# Altium schematic symbol library kmilo17pet-dsPIC33F.SchLib: 775 symbols (part 4 of 44)
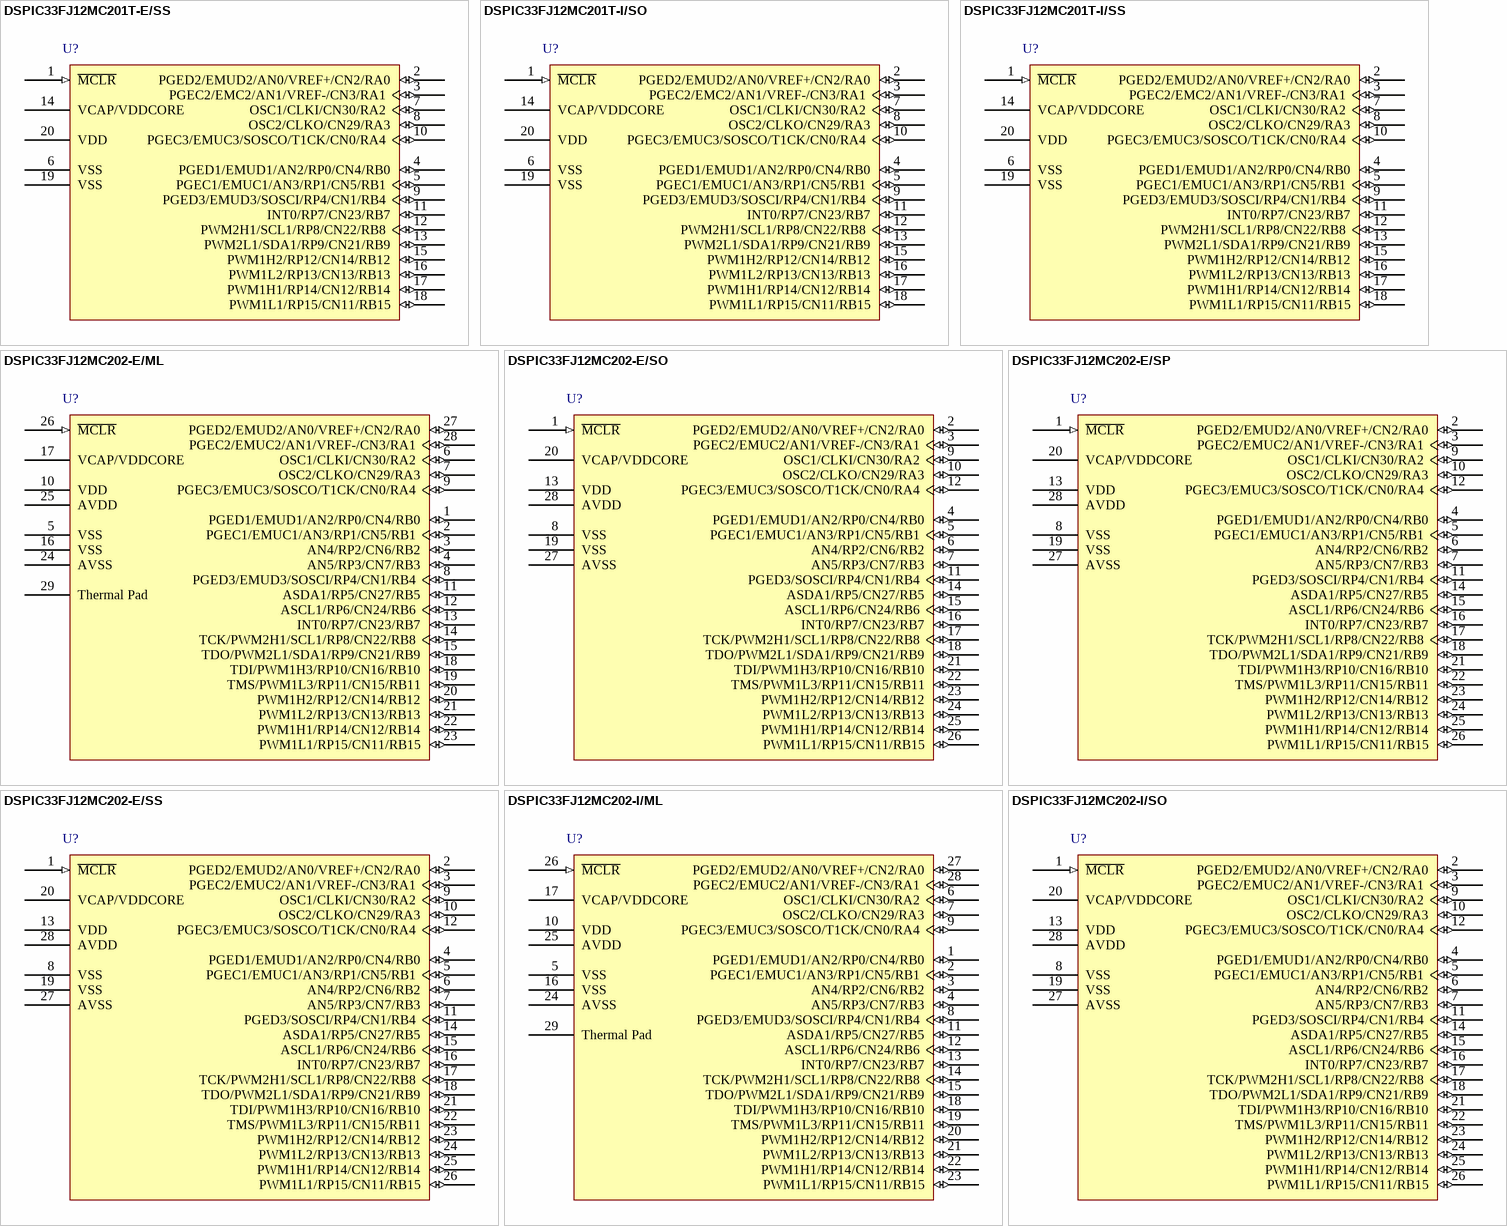
[diagram p161: symbols DSPIC33FJ12MC201T-E/SS to DSPIC33FJ12MC202-I/SO]

## DSPIC33FJ12MC201T-I/SO
designator U?
High-Performance 16-bit Digital Signal Controller, 12 KB Flash, 1 KB RAM, 20-Pin SOIC, Industrial Temperature, Tape and Reel; Manufacturer: Microchip; PartNumber: DSPIC33FJ12MC201T-I/SO; DatasheetVersion: revD, Jun-2009; PackageVersion: revBB, Aug-2009; PackageReference: SOIC-SO20; PackageDescription: 20-Lead Plastic Small Outline (SO) - Wide 7.50mm Body [SOIC]; Supplier 1: Digi-Key; Supplier Part Number 1: DSPIC33FJ12MC201T-I/SOTR-ND; Supplier 2: Mouser; Supplier Part Number 2: 579-DSPIC33MC201TISO; Mounting Technology: Surface Mount; Code_JEDEC: MS-013-AC; Code_IPC: SOIC127P1030-20; ComponentLink1Description: Manufacturer URL; ComponentLink1URL: http://www.microchip.com/; ComponentLink2Description: Datasheet; ComponentLink2URL: http://ww1.microchip.com/downloads/en/DeviceDoc/70265D.pdf; ComponentLink3Description: Package Specification; ComponentLink3URL: http://www.microchip.com/stellent/groups/techpub_sg/documents/packagingspec/en012702.pdf
footprint SOIC-SO20_N (SOIC, 20-Leads, Body 12.8x7.5mm, Pitch 1.27mm, IPC Medium Density)
footprint SOIC-SO20_L (SOIC, 20-Leads, Body 12.8x7.5mm, Pitch 1.27mm, IPC High Density)
footprint SOIC-SO20_M (SOIC, 20-Leads, Body 12.8x7.5mm, Pitch 1.27mm, IPC Low Density)
pins: 1 ~{MCLR} (in), 2 PGED2/EMUD2/AN0/VREF+/CN2/RA0 (io), 3 PGEC2/EMC2/AN1/VREF-/CN3/RA1 (io), 4 PGED1/EMUD1/AN2/RP0/CN4/RB0 (io), 5 PGEC1/EMUC1/AN3/RP1/CN5/RB1 (io), 6 VSS (power), 7 OSC1/CLKI/CN30/RA2 (io), 8 OSC2/CLKO/CN29/RA3 (io), 9 PGED3/EMUD3/SOSCI/RP4/CN1/RB4 (io), 10 PGEC3/EMUC3/SOSCO/T1CK/CN0/RA4 (io), 11 INT0/RP7/CN23/RB7 (io), 12 PWM2H1/SCL1/RP8/CN22/RB8 (io), 13 PWM2L1/SDA1/RP9/CN21/RB9 (io), 14 VCAP/VDDCORE (power), 15 PWM1H2/RP12/CN14/RB12 (io), 16 PWM1L2/RP13/CN13/RB13 (io), 17 PWM1H1/RP14/CN12/RB14 (io), 18 PWM1L1/RP15/CN11/RB15 (io), 19 VSS (power), 20 VDD (power)

## DSPIC33FJ12MC201T-I/SS
designator U?
High-Performance 16-bit Digital Signal Controller, 12 KB Flash, 1 KB RAM, 20-Pin SSOP, Industrial Temperature, Tape and Reel; Manufacturer: Microchip; PartNumber: DSPIC33FJ12MC201T-I/SS; DatasheetVersion: revD, Jun-2009; PackageVersion: revBB, Aug-2009; PackageReference: SSOP-SS20; PackageDescription: 20-Lead Plastic Shrink Small Outline (SS) - 5.3mm Body [SSOP]; Supplier 1: Digi-Key; Supplier Part Number 1: DSPIC33FJ12MC201T-I/SSTR-ND; Supplier 2: Mouser; Supplier Part Number 2: 579-DSPIC33MC201TISS; Mounting Technology: Surface Mount; Code_JEDEC: MO-150; ComponentLink1Description: Manufacturer URL; ComponentLink1URL: http://www.microchip.com/; ComponentLink2Description: Datasheet; ComponentLink2URL: http://ww1.microchip.com/downloads/en/DeviceDoc/70265D.pdf; ComponentLink3Description: Package Specification; ComponentLink3URL: http://www.microchip.com/stellent/groups/techpub_sg/documents/packagingspec/en012702.pdf
footprint SSOP-SS20_N (SOP, 20-Leads, Body 7.2x5.2mm, Pitch 0.65mm, IPC Medium Density)
footprint SSOP-SS20_L (SOP, 20-Leads, Body 7.2x5.2mm, Pitch 0.65mm, IPC High Density)
footprint SSOP-SS20_M (SOP, 20-Leads, Body 7.2x5.2mm, Pitch 0.65mm, IPC Low Density)
pins: 1 ~{MCLR} (in), 2 PGED2/EMUD2/AN0/VREF+/CN2/RA0 (io), 3 PGEC2/EMC2/AN1/VREF-/CN3/RA1 (io), 4 PGED1/EMUD1/AN2/RP0/CN4/RB0 (io), 5 PGEC1/EMUC1/AN3/RP1/CN5/RB1 (io), 6 VSS (power), 7 OSC1/CLKI/CN30/RA2 (io), 8 OSC2/CLKO/CN29/RA3 (io), 9 PGED3/EMUD3/SOSCI/RP4/CN1/RB4 (io), 10 PGEC3/EMUC3/SOSCO/T1CK/CN0/RA4 (io), 11 INT0/RP7/CN23/RB7 (io), 12 PWM2H1/SCL1/RP8/CN22/RB8 (io), 13 PWM2L1/SDA1/RP9/CN21/RB9 (io), 14 VCAP/VDDCORE (power), 15 PWM1H2/RP12/CN14/RB12 (io), 16 PWM1L2/RP13/CN13/RB13 (io), 17 PWM1H1/RP14/CN12/RB14 (io), 18 PWM1L1/RP15/CN11/RB15 (io), 19 VSS (power), 20 VDD (power)

## DSPIC33FJ12MC202-E/ML
designator U?
High-Performance 16-bit Digital Signal Controller, 12 KB Flash, 1 KB RAM, 28-Pin QFN, Extended High Temperature; Manufacturer: Microchip; PartNumber: DSPIC33FJ12MC202-E/ML; DatasheetVersion: revD, Jun-2009; PackageVersion: revBB, Aug-2009; PackageReference: QFN-ML28; PackageDescription: 28-Lead Plastic Quad Flat, No Lead Package (ML) - 6x6 mm Body [QFN] with 0.55 mm Contact Length; Supplier 1: Digi-Key; Supplier Part Number 1: DSPIC33FJ12MC202-E/ML-ND; Supplier 2: Mouser; Supplier Part Number 2: 579-DSPIC33FJ12MCEML; Mounting Technology: Surface Mount; Code_JEDEC: MO-220; ComponentLink1Description: Manufacturer URL; ComponentLink1URL: http://www.microchip.com/; ComponentLink2Description: Datasheet; ComponentLink2URL: http://ww1.microchip.com/downloads/en/DeviceDoc/70265D.pdf; ComponentLink3Description: Package Specification; ComponentLink3URL: http://www.microchip.com/stellent/groups/techpub_sg/documents/packagingspec/en012702.pdf
footprint QFN-ML28_N (QFN, 28-Leads, Body 6x6mm, Pitch 0.65mm, Thermal Pad 4.2x4.2mm, IPC Medium Density)
footprint QFN-ML28_L (QFN, 28-Leads, Body 6x6mm, Pitch 0.65mm, Thermal Pad 4.2x4.2mm, IPC High Density)
footprint QFN-ML28_M (QFN, 28-Leads, Body 6x6mm, Pitch 0.65mm, Thermal Pad 4.2x4.2mm, IPC Low Density)
pins: 1 PGED1/EMUD1/AN2/RP0/CN4/RB0 (io), 2 PGEC1/EMUC1/AN3/RP1/CN5/RB1 (io), 3 AN4/RP2/CN6/RB2 (io), 4 AN5/RP3/CN7/RB3 (io), 5 VSS (power), 6 OSC1/CLKI/CN30/RA2 (io), 7 OSC2/CLKO/CN29/RA3 (io), 8 PGED3/EMUD3/SOSCI/RP4/CN1/RB4 (io), 9 PGEC3/EMUC3/SOSCO/T1CK/CN0/RA4 (io), 10 VDD (power), 11 ASDA1/RP5/CN27/RB5 (io), 12 ASCL1/RP6/CN24/RB6 (io), 13 INT0/RP7/CN23/RB7 (io), 14 TCK/PWM2H1/SCL1/RP8/CN22/RB8 (io), 15 TDO/PWM2L1/SDA1/RP9/CN21/RB9 (io), 16 VSS (power), 17 VCAP/VDDCORE (power), 18 TDI/PWM1H3/RP10/CN16/RB10 (io), 19 TMS/PWM1L3/RP11/CN15/RB11 (io), 20 PWM1H2/RP12/CN14/RB12 (io), 21 PWM1L2/RP13/CN13/RB13 (io), 22 PWM1H1/RP14/CN12/RB14 (io), 23 PWM1L1/RP15/CN11/RB15 (io), 24 AVSS (power), 25 AVDD (power), 26 ~{MCLR} (in), 27 PGED2/EMUD2/AN0/VREF+/CN2/RA0 (io), 28 PGEC2/EMUC2/AN1/VREF-/CN3/RA1 (io), 29 Thermal Pad

## DSPIC33FJ12MC202-E/SO
designator U?
High-Performance 16-bit Digital Signal Controller, 12 KB Flash, 1 KB RAM, 28-Pin SOIC, Extended High Temperature; Manufacturer: Microchip; PartNumber: DSPIC33FJ12MC202-E/SO; DatasheetVersion: revD, Jun-2009; PackageVersion: revBB, Aug-2009; PackageReference: SOIC-SO28; PackageDescription: 28-Lead Plastic Small Outline (SO) - Wide 7.50mm Body [SOIC]; Supplier 1: Digi-Key; Supplier Part Number 1: DSPIC33FJ12MC202-E/SO-ND; Supplier 2: Mouser; Supplier Part Number 2: 579-DSPIC33FJ12M2ESO; Mounting Technology: Surface Mount; Code_JEDEC: MS-013; ComponentLink1Description: Manufacturer URL; ComponentLink1URL: http://www.microchip.com/; ComponentLink2Description: Datasheet; ComponentLink2URL: http://ww1.microchip.com/downloads/en/DeviceDoc/70265D.pdf; ComponentLink3Description: Package Specification; ComponentLink3URL: http://www.microchip.com/stellent/groups/techpub_sg/documents/packagingspec/en012702.pdf
footprint SOIC-SO28_N (SOIC, 28-Leads, Body 17.9x7.5mm, Pitch 1.27mm, IPC Medium Density)
footprint SOIC-SO28_L (SOIC, 28-Leads, Body 17.9x7.5mm, Pitch 1.27mm, IPC High Density)
footprint SOIC-SO28_M (SOIC, 28-Leads, Body 17.9x7.5mm, Pitch 1.27mm, IPC Low Density)
pins: 1 ~{MCLR} (in), 2 PGED2/EMUD2/AN0/VREF+/CN2/RA0 (io), 3 PGEC2/EMUC2/AN1/VREF-/CN3/RA1 (io), 4 PGED1/EMUD1/AN2/RP0/CN4/RB0 (io), 5 PGEC1/EMUC1/AN3/RP1/CN5/RB1 (io), 6 AN4/RP2/CN6/RB2 (io), 7 AN5/RP3/CN7/RB3 (io), 8 VSS (power), 9 OSC1/CLKI/CN30/RA2 (io), 10 OSC2/CLKO/CN29/RA3 (io), 11 PGED3/SOSCI/RP4/CN1/RB4 (io), 12 PGEC3/EMUC3/SOSCO/T1CK/CN0/RA4 (io), 13 VDD (power), 14 ASDA1/RP5/CN27/RB5 (io), 15 ASCL1/RP6/CN24/RB6 (io), 16 INT0/RP7/CN23/RB7 (io), 17 TCK/PWM2H1/SCL1/RP8/CN22/RB8 (io), 18 TDO/PWM2L1/SDA1/RP9/CN21/RB9 (io), 19 VSS (power), 20 VCAP/VDDCORE (power), 21 TDI/PWM1H3/RP10/CN16/RB10 (io), 22 TMS/PWM1L3/RP11/CN15/RB11 (io), 23 PWM1H2/RP12/CN14/RB12 (io), 24 PWM1L2/RP13/CN13/RB13 (io), 25 PWM1H1/RP14/CN12/RB14 (io), 26 PWM1L1/RP15/CN11/RB15 (io), 27 AVSS (power), 28 AVDD (power)

## DSPIC33FJ12MC202-E/SP
designator U?
High-Performance 16-bit Digital Signal Controller, 12 KB Flash, 1 KB RAM, 28-Pin SPDIP, Extended High Temperature; Manufacturer: Microchip; PartNumber: DSPIC33FJ12MC202-E/SP; DatasheetVersion: revD, Jun-2009; PackageVersion: revBB, Aug-2009; PackageReference: SPDIP300-SP28; PackageDescription: 28-Lead Skinny Plastic Dual In-Line (SP) - 300 mil Body [SPDIP]; Supplier 1: Digi-Key; Supplier Part Number 1: DSPIC33FJ12MC202-E/SP-ND; Supplier 2: Mouser; Supplier Part Number 2: 579-DSPIC33FJ12MCESP; Mounting Technology: Through Hole; ComponentLink1Description: Manufacturer URL; ComponentLink1URL: http://www.microchip.com/; ComponentLink2Description: Datasheet; ComponentLink2URL: http://ww1.microchip.com/downloads/en/DeviceDoc/70265D.pdf; ComponentLink3Description: Package Specification; ComponentLink3URL: http://www.microchip.com/stellent/groups/techpub_sg/documents/packagingspec/en012702.pdf
footprint SPDIP300-SP28 (DIP, 28-Leads, Row Spacing 7.62mm, Pitch 2.54mm, Body 34.9x6.8mm)
pins: 1 ~{MCLR} (in), 2 PGED2/EMUD2/AN0/VREF+/CN2/RA0 (io), 3 PGEC2/EMUC2/AN1/VREF-/CN3/RA1 (io), 4 PGED1/EMUD1/AN2/RP0/CN4/RB0 (io), 5 PGEC1/EMUC1/AN3/RP1/CN5/RB1 (io), 6 AN4/RP2/CN6/RB2 (io), 7 AN5/RP3/CN7/RB3 (io), 8 VSS (power), 9 OSC1/CLKI/CN30/RA2 (io), 10 OSC2/CLKO/CN29/RA3 (io), 11 PGED3/SOSCI/RP4/CN1/RB4 (io), 12 PGEC3/EMUC3/SOSCO/T1CK/CN0/RA4 (io), 13 VDD (power), 14 ASDA1/RP5/CN27/RB5 (io), 15 ASCL1/RP6/CN24/RB6 (io), 16 INT0/RP7/CN23/RB7 (io), 17 TCK/PWM2H1/SCL1/RP8/CN22/RB8 (io), 18 TDO/PWM2L1/SDA1/RP9/CN21/RB9 (io), 19 VSS (power), 20 VCAP/VDDCORE (power), 21 TDI/PWM1H3/RP10/CN16/RB10 (io), 22 TMS/PWM1L3/RP11/CN15/RB11 (io), 23 PWM1H2/RP12/CN14/RB12 (io), 24 PWM1L2/RP13/CN13/RB13 (io), 25 PWM1H1/RP14/CN12/RB14 (io), 26 PWM1L1/RP15/CN11/RB15 (io), 27 AVSS (power), 28 AVDD (power)

## DSPIC33FJ12MC202-E/SS
designator U?
High-Performance 16-bit Digital Signal Controller, 12 KB Flash, 1 KB RAM, 28-Pin SSOP, Extended High Temperature; Manufacturer: Microchip; PartNumber: DSPIC33FJ12MC202-E/SS; DatasheetVersion: revD, Jun-2009; PackageVersion: revBB, Aug-2009; PackageReference: SSOP-SS28; PackageDescription: 28-Lead Plastic Shrink Small Outline (SS) - 5.3mm Body [SSOP]; Supplier 1: Digi-Key; Supplier Part Number 1: DSPIC33FJ12MC202-E/SS-ND; Supplier 2: Mouser; Supplier Part Number 2: 579-DSPIC332MC202ESS; Mounting Technology: Surface Mount; Code_JEDEC: MS-150; ComponentLink1Description: Manufacturer URL; ComponentLink1URL: http://www.microchip.com/; ComponentLink2Description: Datasheet; ComponentLink2URL: http://ww1.microchip.com/downloads/en/DeviceDoc/70265D.pdf; ComponentLink3Description: Package Specification; ComponentLink3URL: http://www.microchip.com/stellent/groups/techpub_sg/documents/packagingspec/en012702.pdf
footprint SSOP-SS28_N (SOP, 28-Leads, Body 10.2x5.2mm, Pitch 0.65mm, IPC Medium Density)
footprint SSOP-SS28_L (SOP, 28-Leads, Body 10.2x5.2mm, Pitch 0.65mm, IPC High Density)
footprint SSOP-SS28_M (SOP, 28-Leads, Body 10.2x5.2mm, Pitch 0.65mm, IPC Low Density)
pins: 1 ~{MCLR} (in), 2 PGED2/EMUD2/AN0/VREF+/CN2/RA0 (io), 3 PGEC2/EMUC2/AN1/VREF-/CN3/RA1 (io), 4 PGED1/EMUD1/AN2/RP0/CN4/RB0 (io), 5 PGEC1/EMUC1/AN3/RP1/CN5/RB1 (io), 6 AN4/RP2/CN6/RB2 (io), 7 AN5/RP3/CN7/RB3 (io), 8 VSS (power), 9 OSC1/CLKI/CN30/RA2 (io), 10 OSC2/CLKO/CN29/RA3 (io), 11 PGED3/SOSCI/RP4/CN1/RB4 (io), 12 PGEC3/EMUC3/SOSCO/T1CK/CN0/RA4 (io), 13 VDD (power), 14 ASDA1/RP5/CN27/RB5 (io), 15 ASCL1/RP6/CN24/RB6 (io), 16 INT0/RP7/CN23/RB7 (io), 17 TCK/PWM2H1/SCL1/RP8/CN22/RB8 (io), 18 TDO/PWM2L1/SDA1/RP9/CN21/RB9 (io), 19 VSS (power), 20 VCAP/VDDCORE (power), 21 TDI/PWM1H3/RP10/CN16/RB10 (io), 22 TMS/PWM1L3/RP11/CN15/RB11 (io), 23 PWM1H2/RP12/CN14/RB12 (io), 24 PWM1L2/RP13/CN13/RB13 (io), 25 PWM1H1/RP14/CN12/RB14 (io), 26 PWM1L1/RP15/CN11/RB15 (io), 27 AVSS (power), 28 AVDD (power)

## DSPIC33FJ12MC202-I/ML
designator U?
High-Performance 16-bit Digital Signal Controller, 12 KB Flash, 1 KB RAM, 28-Pin QFN, Industrial Temperature; Manufacturer: Microchip; PartNumber: DSPIC33FJ12MC202-I/ML; DatasheetVersion: revD, Jun-2009; PackageVersion: revBB, Aug-2009; PackageReference: QFN-ML28; PackageDescription: 28-Lead Plastic Quad Flat, No Lead Package (ML) - 6x6 mm Body [QFN] with 0.55 mm Contact Length; Supplier 1: Digi-Key; Supplier Part Number 1: DSPIC33FJ12MC202-I/ML-ND; Supplier 2: Newark; Supplier Part Number 2: 88K3897; Supplier 3: Mouser; Supplier Part Number 3: 579-DSPICJ12MC202IML; Mounting Technology: Surface Mount; Code_JEDEC: MO-220; ComponentLink1Description: Manufacturer URL; ComponentLink1URL: http://www.microchip.com/; ComponentLink2Description: Datasheet; ComponentLink2URL: http://ww1.microchip.com/downloads/en/DeviceDoc/70265D.pdf; ComponentLink3Description: Package Specification; ComponentLink3URL: http://www.microchip.com/stellent/groups/techpub_sg/documents/packagingspec/en012702.pdf
footprint QFN-ML28_N (QFN, 28-Leads, Body 6x6mm, Pitch 0.65mm, Thermal Pad 4.2x4.2mm, IPC Medium Density)
footprint QFN-ML28_L (QFN, 28-Leads, Body 6x6mm, Pitch 0.65mm, Thermal Pad 4.2x4.2mm, IPC High Density)
footprint QFN-ML28_M (QFN, 28-Leads, Body 6x6mm, Pitch 0.65mm, Thermal Pad 4.2x4.2mm, IPC Low Density)
pins: 1 PGED1/EMUD1/AN2/RP0/CN4/RB0 (io), 2 PGEC1/EMUC1/AN3/RP1/CN5/RB1 (io), 3 AN4/RP2/CN6/RB2 (io), 4 AN5/RP3/CN7/RB3 (io), 5 VSS (power), 6 OSC1/CLKI/CN30/RA2 (io), 7 OSC2/CLKO/CN29/RA3 (io), 8 PGED3/EMUD3/SOSCI/RP4/CN1/RB4 (io), 9 PGEC3/EMUC3/SOSCO/T1CK/CN0/RA4 (io), 10 VDD (power), 11 ASDA1/RP5/CN27/RB5 (io), 12 ASCL1/RP6/CN24/RB6 (io), 13 INT0/RP7/CN23/RB7 (io), 14 TCK/PWM2H1/SCL1/RP8/CN22/RB8 (io), 15 TDO/PWM2L1/SDA1/RP9/CN21/RB9 (io), 16 VSS (power), 17 VCAP/VDDCORE (power), 18 TDI/PWM1H3/RP10/CN16/RB10 (io), 19 TMS/PWM1L3/RP11/CN15/RB11 (io), 20 PWM1H2/RP12/CN14/RB12 (io), 21 PWM1L2/RP13/CN13/RB13 (io), 22 PWM1H1/RP14/CN12/RB14 (io), 23 PWM1L1/RP15/CN11/RB15 (io), 24 AVSS (power), 25 AVDD (power), 26 ~{MCLR} (in), 27 PGED2/EMUD2/AN0/VREF+/CN2/RA0 (io), 28 PGEC2/EMUC2/AN1/VREF-/CN3/RA1 (io), 29 Thermal Pad

## DSPIC33FJ12MC202-I/SO
designator U?
High-Performance 16-bit Digital Signal Controller, 12 KB Flash, 1 KB RAM, 28-Pin SOIC, Industrial Temperature; Manufacturer: Microchip; PartNumber: DSPIC33FJ12MC202-I/SO; DatasheetVersion: revD, Jun-2009; PackageVersion: revBB, Aug-2009; PackageReference: SOIC-SO28; PackageDescription: 28-Lead Plastic Small Outline (SO) - Wide 7.50mm Body [SOIC]; Supplier 1: Digi-Key; Supplier Part Number 1: DSPIC33FJ12MC202-I/SO-ND; Supplier 2: Farnell; Supplier Part Number 2: 1439609; Supplier 3: Newark; Supplier Part Number 3: 88K3898; Supplier 4: Mouser; Supplier Part Number 4: 579-DSPICJ12MC202ISO; Mounting Technology: Surface Mount; Code_JEDEC: MS-013; ComponentLink1Description: Manufacturer URL; ComponentLink1URL: http://www.microchip.com/; ComponentLink2Description: Datasheet; ComponentLink2URL: http://ww1.microchip.com/downloads/en/DeviceDoc/70265D.pdf; ComponentLink3Description: Package Specification; ComponentLink3URL: http://www.microchip.com/stellent/groups/techpub_sg/documents/packagingspec/en012702.pdf
footprint SOIC-SO28_N (SOIC, 28-Leads, Body 17.9x7.5mm, Pitch 1.27mm, IPC Medium Density)
footprint SOIC-SO28_L (SOIC, 28-Leads, Body 17.9x7.5mm, Pitch 1.27mm, IPC High Density)
footprint SOIC-SO28_M (SOIC, 28-Leads, Body 17.9x7.5mm, Pitch 1.27mm, IPC Low Density)
pins: 1 ~{MCLR} (in), 2 PGED2/EMUD2/AN0/VREF+/CN2/RA0 (io), 3 PGEC2/EMUC2/AN1/VREF-/CN3/RA1 (io), 4 PGED1/EMUD1/AN2/RP0/CN4/RB0 (io), 5 PGEC1/EMUC1/AN3/RP1/CN5/RB1 (io), 6 AN4/RP2/CN6/RB2 (io), 7 AN5/RP3/CN7/RB3 (io), 8 VSS (power), 9 OSC1/CLKI/CN30/RA2 (io), 10 OSC2/CLKO/CN29/RA3 (io), 11 PGED3/SOSCI/RP4/CN1/RB4 (io), 12 PGEC3/EMUC3/SOSCO/T1CK/CN0/RA4 (io), 13 VDD (power), 14 ASDA1/RP5/CN27/RB5 (io), 15 ASCL1/RP6/CN24/RB6 (io), 16 INT0/RP7/CN23/RB7 (io), 17 TCK/PWM2H1/SCL1/RP8/CN22/RB8 (io), 18 TDO/PWM2L1/SDA1/RP9/CN21/RB9 (io), 19 VSS (power), 20 VCAP/VDDCORE (power), 21 TDI/PWM1H3/RP10/CN16/RB10 (io), 22 TMS/PWM1L3/RP11/CN15/RB11 (io), 23 PWM1H2/RP12/CN14/RB12 (io), 24 PWM1L2/RP13/CN13/RB13 (io), 25 PWM1H1/RP14/CN12/RB14 (io), 26 PWM1L1/RP15/CN11/RB15 (io), 27 AVSS (power), 28 AVDD (power)

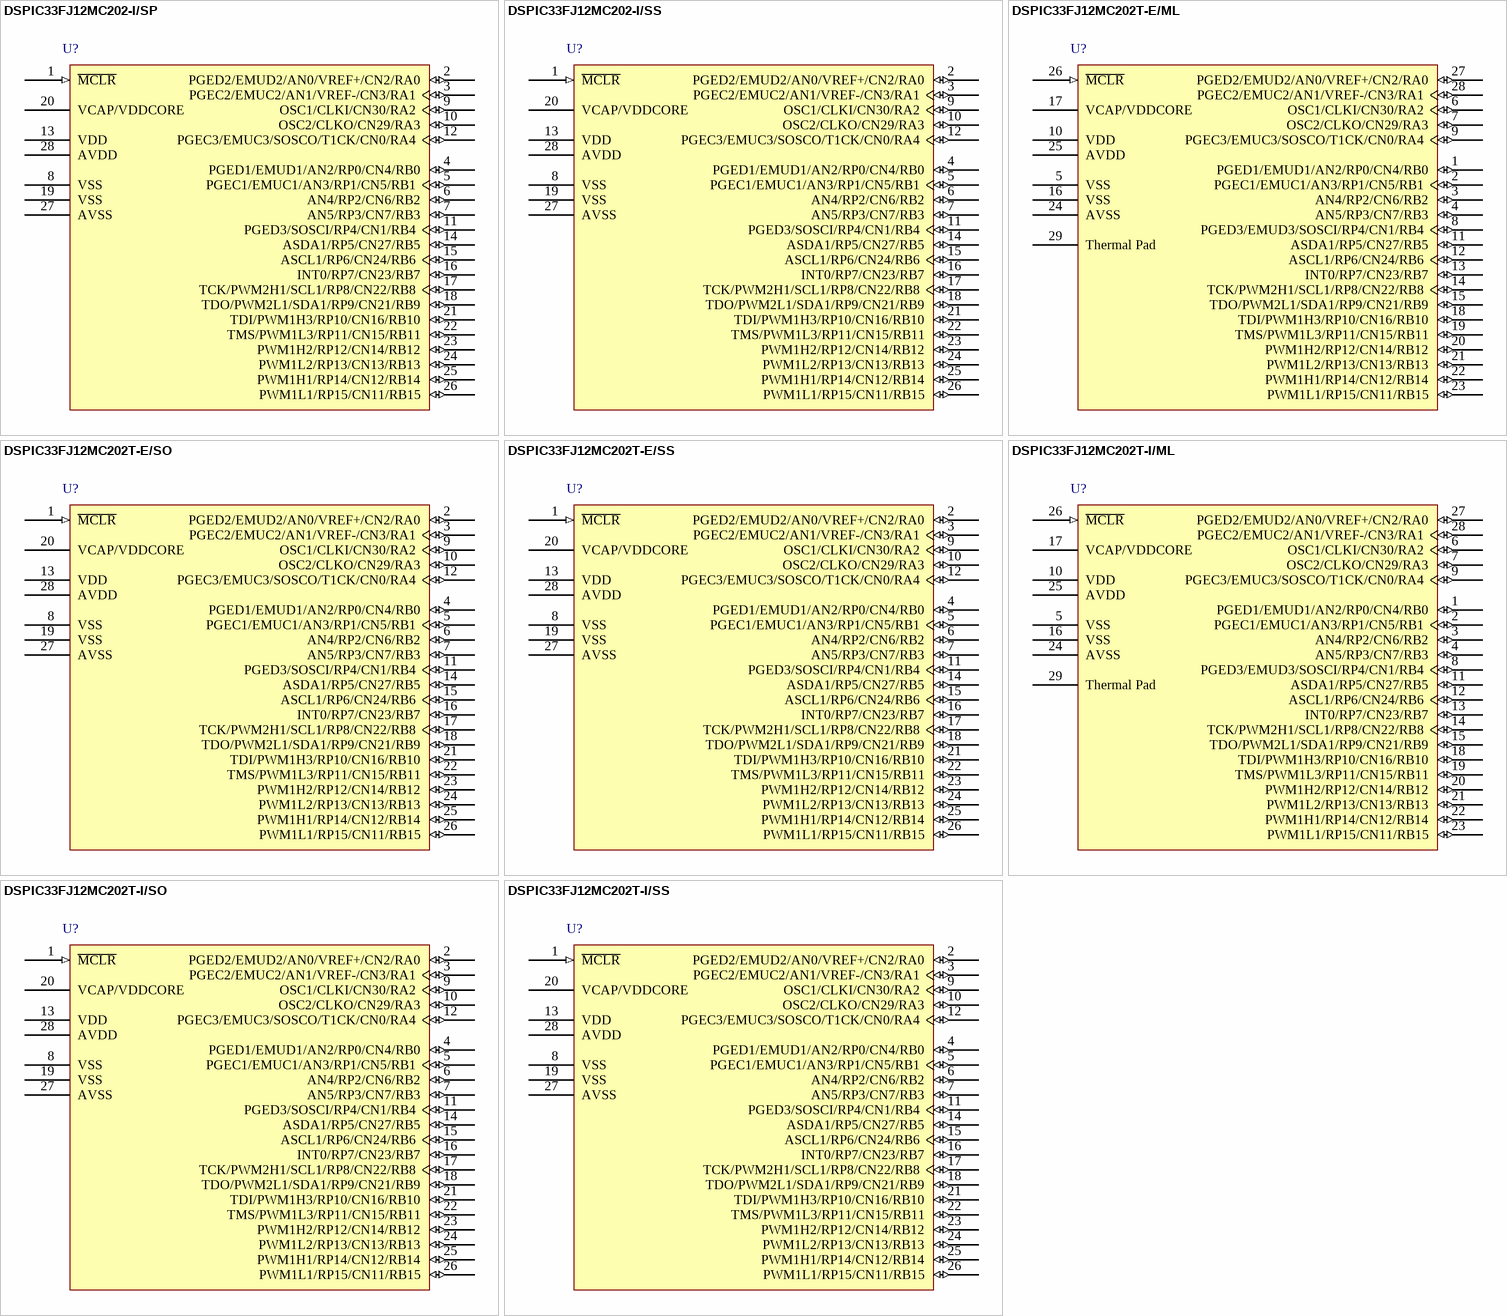
[diagram p8: symbols DSPIC33FJ12MC202-I/SP to DSPIC33FJ12MC202T-I/SS]

## DSPIC33FJ12MC202-I/SP
designator U?
High-Performance 16-bit Digital Signal Controller, 12 KB Flash, 1 KB RAM, 28-Pin SPDIP, Industrial Temperature; Manufacturer: Microchip; PartNumber: DSPIC33FJ12MC202-I/SP; DatasheetVersion: revD, Jun-2009; PackageVersion: revBB, Aug-2009; PackageReference: SPDIP300-SP28; PackageDescription: 28-Lead Skinny Plastic Dual In-Line (SP) - 300 mil Body [SPDIP]; Supplier 1: Digi-Key; Supplier Part Number 1: DSPIC33FJ12MC202-I/SP-ND; Supplier 2: Farnell; Supplier Part Number 2: 1439610; Supplier 3: Newark; Supplier Part Number 3: 88K3899; Supplier 4: Mouser; Supplier Part Number 4: 579-DSPICJ12MC202ISP; Mounting Technology: Through Hole; ComponentLink1Description: Manufacturer URL; ComponentLink1URL: http://www.microchip.com/; ComponentLink2Description: Datasheet; ComponentLink2URL: http://ww1.microchip.com/downloads/en/DeviceDoc/70265D.pdf; ComponentLink3Description: Package Specification; ComponentLink3URL: http://www.microchip.com/stellent/groups/techpub_sg/documents/packagingspec/en012702.pdf
footprint SPDIP300-SP28 (DIP, 28-Leads, Row Spacing 7.62mm, Pitch 2.54mm, Body 34.9x6.8mm)
pins: 1 ~{MCLR} (in), 2 PGED2/EMUD2/AN0/VREF+/CN2/RA0 (io), 3 PGEC2/EMUC2/AN1/VREF-/CN3/RA1 (io), 4 PGED1/EMUD1/AN2/RP0/CN4/RB0 (io), 5 PGEC1/EMUC1/AN3/RP1/CN5/RB1 (io), 6 AN4/RP2/CN6/RB2 (io), 7 AN5/RP3/CN7/RB3 (io), 8 VSS (power), 9 OSC1/CLKI/CN30/RA2 (io), 10 OSC2/CLKO/CN29/RA3 (io), 11 PGED3/SOSCI/RP4/CN1/RB4 (io), 12 PGEC3/EMUC3/SOSCO/T1CK/CN0/RA4 (io), 13 VDD (power), 14 ASDA1/RP5/CN27/RB5 (io), 15 ASCL1/RP6/CN24/RB6 (io), 16 INT0/RP7/CN23/RB7 (io), 17 TCK/PWM2H1/SCL1/RP8/CN22/RB8 (io), 18 TDO/PWM2L1/SDA1/RP9/CN21/RB9 (io), 19 VSS (power), 20 VCAP/VDDCORE (power), 21 TDI/PWM1H3/RP10/CN16/RB10 (io), 22 TMS/PWM1L3/RP11/CN15/RB11 (io), 23 PWM1H2/RP12/CN14/RB12 (io), 24 PWM1L2/RP13/CN13/RB13 (io), 25 PWM1H1/RP14/CN12/RB14 (io), 26 PWM1L1/RP15/CN11/RB15 (io), 27 AVSS (power), 28 AVDD (power)

## DSPIC33FJ12MC202-I/SS
designator U?
High-Performance 16-bit Digital Signal Controller, 12 KB Flash, 1 KB RAM, 28-Pin SSOP, Industrial Temperature; Manufacturer: Microchip; PartNumber: DSPIC33FJ12MC202-I/SS; DatasheetVersion: revD, Jun-2009; PackageVersion: revBB, Aug-2009; PackageReference: SSOP-SS28; PackageDescription: 28-Lead Plastic Shrink Small Outline (SS) - 5.3mm Body [SSOP]; Supplier 1: Digi-Key; Supplier Part Number 1: DSPIC33FJ12MC202-I/SS-ND; Supplier 2: Farnell; Supplier Part Number 2: 1576906; Supplier 3: Newark; Supplier Part Number 3: 77M2333; Supplier 4: Mouser; Supplier Part Number 4: 579-DSPIC332MC202ISS; Mounting Technology: Surface Mount; Code_JEDEC: MS-150; ComponentLink1Description: Manufacturer URL; ComponentLink1URL: http://www.microchip.com/; ComponentLink2Description: Datasheet; ComponentLink2URL: http://ww1.microchip.com/downloads/en/DeviceDoc/70265D.pdf; ComponentLink3Description: Package Specification; ComponentLink3URL: http://www.microchip.com/stellent/groups/techpub_sg/documents/packagingspec/en012702.pdf
footprint SSOP-SS28_N (SOP, 28-Leads, Body 10.2x5.2mm, Pitch 0.65mm, IPC Medium Density)
footprint SSOP-SS28_L (SOP, 28-Leads, Body 10.2x5.2mm, Pitch 0.65mm, IPC High Density)
footprint SSOP-SS28_M (SOP, 28-Leads, Body 10.2x5.2mm, Pitch 0.65mm, IPC Low Density)
pins: 1 ~{MCLR} (in), 2 PGED2/EMUD2/AN0/VREF+/CN2/RA0 (io), 3 PGEC2/EMUC2/AN1/VREF-/CN3/RA1 (io), 4 PGED1/EMUD1/AN2/RP0/CN4/RB0 (io), 5 PGEC1/EMUC1/AN3/RP1/CN5/RB1 (io), 6 AN4/RP2/CN6/RB2 (io), 7 AN5/RP3/CN7/RB3 (io), 8 VSS (power), 9 OSC1/CLKI/CN30/RA2 (io), 10 OSC2/CLKO/CN29/RA3 (io), 11 PGED3/SOSCI/RP4/CN1/RB4 (io), 12 PGEC3/EMUC3/SOSCO/T1CK/CN0/RA4 (io), 13 VDD (power), 14 ASDA1/RP5/CN27/RB5 (io), 15 ASCL1/RP6/CN24/RB6 (io), 16 INT0/RP7/CN23/RB7 (io), 17 TCK/PWM2H1/SCL1/RP8/CN22/RB8 (io), 18 TDO/PWM2L1/SDA1/RP9/CN21/RB9 (io), 19 VSS (power), 20 VCAP/VDDCORE (power), 21 TDI/PWM1H3/RP10/CN16/RB10 (io), 22 TMS/PWM1L3/RP11/CN15/RB11 (io), 23 PWM1H2/RP12/CN14/RB12 (io), 24 PWM1L2/RP13/CN13/RB13 (io), 25 PWM1H1/RP14/CN12/RB14 (io), 26 PWM1L1/RP15/CN11/RB15 (io), 27 AVSS (power), 28 AVDD (power)

## DSPIC33FJ12MC202T-E/ML
designator U?
High-Performance 16-bit Digital Signal Controller, 12 KB Flash, 1 KB RAM, 28-Pin QFN, Extended High Temperature, Tape and Reel; Manufacturer: Microchip; PartNumber: DSPIC33FJ12MC202T-E/ML; DatasheetVersion: revD, Jun-2009; PackageVersion: revBB, Aug-2009; PackageReference: QFN-ML28; PackageDescription: 28-Lead Plastic Quad Flat, No Lead Package (ML) - 6x6 mm Body [QFN] with 0.55 mm Contact Length; Supplier 1: Digi-Key; Supplier Part Number 1: DSPIC33FJ12MC202T-E/ML-ND; Supplier 2: Mouser; Supplier Part Number 2: 579-DSPIC33MC202TEML; Mounting Technology: Surface Mount; Code_JEDEC: MO-220; ComponentLink1Description: Manufacturer URL; ComponentLink1URL: http://www.microchip.com/; ComponentLink2Description: Datasheet; ComponentLink2URL: http://ww1.microchip.com/downloads/en/DeviceDoc/70265D.pdf; ComponentLink3Description: Package Specification; ComponentLink3URL: http://www.microchip.com/stellent/groups/techpub_sg/documents/packagingspec/en012702.pdf
footprint QFN-ML28_N (QFN, 28-Leads, Body 6x6mm, Pitch 0.65mm, Thermal Pad 4.2x4.2mm, IPC Medium Density)
footprint QFN-ML28_L (QFN, 28-Leads, Body 6x6mm, Pitch 0.65mm, Thermal Pad 4.2x4.2mm, IPC High Density)
footprint QFN-ML28_M (QFN, 28-Leads, Body 6x6mm, Pitch 0.65mm, Thermal Pad 4.2x4.2mm, IPC Low Density)
pins: 1 PGED1/EMUD1/AN2/RP0/CN4/RB0 (io), 2 PGEC1/EMUC1/AN3/RP1/CN5/RB1 (io), 3 AN4/RP2/CN6/RB2 (io), 4 AN5/RP3/CN7/RB3 (io), 5 VSS (power), 6 OSC1/CLKI/CN30/RA2 (io), 7 OSC2/CLKO/CN29/RA3 (io), 8 PGED3/EMUD3/SOSCI/RP4/CN1/RB4 (io), 9 PGEC3/EMUC3/SOSCO/T1CK/CN0/RA4 (io), 10 VDD (power), 11 ASDA1/RP5/CN27/RB5 (io), 12 ASCL1/RP6/CN24/RB6 (io), 13 INT0/RP7/CN23/RB7 (io), 14 TCK/PWM2H1/SCL1/RP8/CN22/RB8 (io), 15 TDO/PWM2L1/SDA1/RP9/CN21/RB9 (io), 16 VSS (power), 17 VCAP/VDDCORE (power), 18 TDI/PWM1H3/RP10/CN16/RB10 (io), 19 TMS/PWM1L3/RP11/CN15/RB11 (io), 20 PWM1H2/RP12/CN14/RB12 (io), 21 PWM1L2/RP13/CN13/RB13 (io), 22 PWM1H1/RP14/CN12/RB14 (io), 23 PWM1L1/RP15/CN11/RB15 (io), 24 AVSS (power), 25 AVDD (power), 26 ~{MCLR} (in), 27 PGED2/EMUD2/AN0/VREF+/CN2/RA0 (io), 28 PGEC2/EMUC2/AN1/VREF-/CN3/RA1 (io), 29 Thermal Pad

## DSPIC33FJ12MC202T-E/SO
designator U?
High-Performance 16-bit Digital Signal Controller, 12 KB Flash, 1 KB RAM, 28-Pin SOIC, Extended High Temperature, Tape and Reel; Manufacturer: Microchip; PartNumber: DSPIC33FJ12MC202T-E/SO; DatasheetVersion: revD, Jun-2009; PackageVersion: revBB, Aug-2009; PackageReference: SOIC-SO28; PackageDescription: 28-Lead Plastic Small Outline (SO) - Wide 7.50mm Body [SOIC]; Supplier 1: Digi-Key; Supplier Part Number 1: DSPIC33FJ12MC202T-E/SO-ND; Supplier 2: Mouser; Supplier Part Number 2: 579-DSPIC33MC202TESO; Mounting Technology: Surface Mount; Code_JEDEC: MS-013; ComponentLink1Description: Manufacturer URL; ComponentLink1URL: http://www.microchip.com/; ComponentLink2Description: Datasheet; ComponentLink2URL: http://ww1.microchip.com/downloads/en/DeviceDoc/70265D.pdf; ComponentLink3Description: Package Specification; ComponentLink3URL: http://www.microchip.com/stellent/groups/techpub_sg/documents/packagingspec/en012702.pdf
footprint SOIC-SO28_N (SOIC, 28-Leads, Body 17.9x7.5mm, Pitch 1.27mm, IPC Medium Density)
footprint SOIC-SO28_L (SOIC, 28-Leads, Body 17.9x7.5mm, Pitch 1.27mm, IPC High Density)
footprint SOIC-SO28_M (SOIC, 28-Leads, Body 17.9x7.5mm, Pitch 1.27mm, IPC Low Density)
pins: 1 ~{MCLR} (in), 2 PGED2/EMUD2/AN0/VREF+/CN2/RA0 (io), 3 PGEC2/EMUC2/AN1/VREF-/CN3/RA1 (io), 4 PGED1/EMUD1/AN2/RP0/CN4/RB0 (io), 5 PGEC1/EMUC1/AN3/RP1/CN5/RB1 (io), 6 AN4/RP2/CN6/RB2 (io), 7 AN5/RP3/CN7/RB3 (io), 8 VSS (power), 9 OSC1/CLKI/CN30/RA2 (io), 10 OSC2/CLKO/CN29/RA3 (io), 11 PGED3/SOSCI/RP4/CN1/RB4 (io), 12 PGEC3/EMUC3/SOSCO/T1CK/CN0/RA4 (io), 13 VDD (power), 14 ASDA1/RP5/CN27/RB5 (io), 15 ASCL1/RP6/CN24/RB6 (io), 16 INT0/RP7/CN23/RB7 (io), 17 TCK/PWM2H1/SCL1/RP8/CN22/RB8 (io), 18 TDO/PWM2L1/SDA1/RP9/CN21/RB9 (io), 19 VSS (power), 20 VCAP/VDDCORE (power), 21 TDI/PWM1H3/RP10/CN16/RB10 (io), 22 TMS/PWM1L3/RP11/CN15/RB11 (io), 23 PWM1H2/RP12/CN14/RB12 (io), 24 PWM1L2/RP13/CN13/RB13 (io), 25 PWM1H1/RP14/CN12/RB14 (io), 26 PWM1L1/RP15/CN11/RB15 (io), 27 AVSS (power), 28 AVDD (power)

## DSPIC33FJ12MC202T-E/SS
designator U?
High-Performance 16-bit Digital Signal Controller, 12 KB Flash, 1 KB RAM, 28-Pin SSOP, Extended High Temperature, Tape and Reel; Manufacturer: Microchip; PartNumber: DSPIC33FJ12MC202T-E/SS; DatasheetVersion: revD, Jun-2009; PackageVersion: revBB, Aug-2009; PackageReference: SSOP-SS28; PackageDescription: 28-Lead Plastic Shrink Small Outline (SS) - 5.3mm Body [SSOP]; Mounting Technology: Surface Mount; Code_JEDEC: MS-150; ComponentLink1Description: Manufacturer URL; ComponentLink1URL: http://www.microchip.com/; ComponentLink2Description: Datasheet; ComponentLink2URL: http://ww1.microchip.com/downloads/en/DeviceDoc/70265D.pdf; ComponentLink3Description: Package Specification; ComponentLink3URL: http://www.microchip.com/stellent/groups/techpub_sg/documents/packagingspec/en012702.pdf
footprint SSOP-SS28_N (SOP, 28-Leads, Body 10.2x5.2mm, Pitch 0.65mm, IPC Medium Density)
footprint SSOP-SS28_L (SOP, 28-Leads, Body 10.2x5.2mm, Pitch 0.65mm, IPC High Density)
footprint SSOP-SS28_M (SOP, 28-Leads, Body 10.2x5.2mm, Pitch 0.65mm, IPC Low Density)
pins: 1 ~{MCLR} (in), 2 PGED2/EMUD2/AN0/VREF+/CN2/RA0 (io), 3 PGEC2/EMUC2/AN1/VREF-/CN3/RA1 (io), 4 PGED1/EMUD1/AN2/RP0/CN4/RB0 (io), 5 PGEC1/EMUC1/AN3/RP1/CN5/RB1 (io), 6 AN4/RP2/CN6/RB2 (io), 7 AN5/RP3/CN7/RB3 (io), 8 VSS (power), 9 OSC1/CLKI/CN30/RA2 (io), 10 OSC2/CLKO/CN29/RA3 (io), 11 PGED3/SOSCI/RP4/CN1/RB4 (io), 12 PGEC3/EMUC3/SOSCO/T1CK/CN0/RA4 (io), 13 VDD (power), 14 ASDA1/RP5/CN27/RB5 (io), 15 ASCL1/RP6/CN24/RB6 (io), 16 INT0/RP7/CN23/RB7 (io), 17 TCK/PWM2H1/SCL1/RP8/CN22/RB8 (io), 18 TDO/PWM2L1/SDA1/RP9/CN21/RB9 (io), 19 VSS (power), 20 VCAP/VDDCORE (power), 21 TDI/PWM1H3/RP10/CN16/RB10 (io), 22 TMS/PWM1L3/RP11/CN15/RB11 (io), 23 PWM1H2/RP12/CN14/RB12 (io), 24 PWM1L2/RP13/CN13/RB13 (io), 25 PWM1H1/RP14/CN12/RB14 (io), 26 PWM1L1/RP15/CN11/RB15 (io), 27 AVSS (power), 28 AVDD (power)

## DSPIC33FJ12MC202T-I/ML
designator U?
High-Performance 16-bit Digital Signal Controller, 12 KB Flash, 1 KB RAM, 28-Pin QFN, Industrial Temperature, Tape and Reel; Manufacturer: Microchip; PartNumber: DSPIC33FJ12MC202T-I/ML; DatasheetVersion: revD, Jun-2009; PackageVersion: revBB, Aug-2009; PackageReference: QFN-ML28; PackageDescription: 28-Lead Plastic Quad Flat, No Lead Package (ML) - 6x6 mm Body [QFN] with 0.55 mm Contact Length; Supplier 1: Digi-Key; Supplier Part Number 1: DSPIC33FJ12MC202T-I/MLTR-ND; Supplier 2: Mouser; Supplier Part Number 2: 579-DSPIC33MC202TIML; Mounting Technology: Surface Mount; Code_JEDEC: MO-220; ComponentLink1Description: Manufacturer URL; ComponentLink1URL: http://www.microchip.com/; ComponentLink2Description: Datasheet; ComponentLink2URL: http://ww1.microchip.com/downloads/en/DeviceDoc/70265D.pdf; ComponentLink3Description: Package Specification; ComponentLink3URL: http://www.microchip.com/stellent/groups/techpub_sg/documents/packagingspec/en012702.pdf
footprint QFN-ML28_N (QFN, 28-Leads, Body 6x6mm, Pitch 0.65mm, Thermal Pad 4.2x4.2mm, IPC Medium Density)
footprint QFN-ML28_L (QFN, 28-Leads, Body 6x6mm, Pitch 0.65mm, Thermal Pad 4.2x4.2mm, IPC High Density)
footprint QFN-ML28_M (QFN, 28-Leads, Body 6x6mm, Pitch 0.65mm, Thermal Pad 4.2x4.2mm, IPC Low Density)
pins: 1 PGED1/EMUD1/AN2/RP0/CN4/RB0 (io), 2 PGEC1/EMUC1/AN3/RP1/CN5/RB1 (io), 3 AN4/RP2/CN6/RB2 (io), 4 AN5/RP3/CN7/RB3 (io), 5 VSS (power), 6 OSC1/CLKI/CN30/RA2 (io), 7 OSC2/CLKO/CN29/RA3 (io), 8 PGED3/EMUD3/SOSCI/RP4/CN1/RB4 (io), 9 PGEC3/EMUC3/SOSCO/T1CK/CN0/RA4 (io), 10 VDD (power), 11 ASDA1/RP5/CN27/RB5 (io), 12 ASCL1/RP6/CN24/RB6 (io), 13 INT0/RP7/CN23/RB7 (io), 14 TCK/PWM2H1/SCL1/RP8/CN22/RB8 (io), 15 TDO/PWM2L1/SDA1/RP9/CN21/RB9 (io), 16 VSS (power), 17 VCAP/VDDCORE (power), 18 TDI/PWM1H3/RP10/CN16/RB10 (io), 19 TMS/PWM1L3/RP11/CN15/RB11 (io), 20 PWM1H2/RP12/CN14/RB12 (io), 21 PWM1L2/RP13/CN13/RB13 (io), 22 PWM1H1/RP14/CN12/RB14 (io), 23 PWM1L1/RP15/CN11/RB15 (io), 24 AVSS (power), 25 AVDD (power), 26 ~{MCLR} (in), 27 PGED2/EMUD2/AN0/VREF+/CN2/RA0 (io), 28 PGEC2/EMUC2/AN1/VREF-/CN3/RA1 (io), 29 Thermal Pad

## DSPIC33FJ12MC202T-I/SO
designator U?
High-Performance 16-bit Digital Signal Controller, 12 KB Flash, 1 KB RAM, 28-Pin SOIC, Industrial Temperature, Tape and Reel; Manufacturer: Microchip; PartNumber: DSPIC33FJ12MC202T-I/SO; DatasheetVersion: revD, Jun-2009; PackageVersion: revBB, Aug-2009; PackageReference: SOIC-SO28; PackageDescription: 28-Lead Plastic Small Outline (SO) - Wide 7.50mm Body [SOIC]; Supplier 1: Digi-Key; Supplier Part Number 1: DSPIC33FJ12MC202T-I/SOTR-ND; Supplier 2: Mouser; Supplier Part Number 2: 579-DSPIC33MC202TISO; Mounting Technology: Surface Mount; Code_JEDEC: MS-013; ComponentLink1Description: Manufacturer URL; ComponentLink1URL: http://www.microchip.com/; ComponentLink2Description: Datasheet; ComponentLink2URL: http://ww1.microchip.com/downloads/en/DeviceDoc/70265D.pdf; ComponentLink3Description: Package Specification; ComponentLink3URL: http://www.microchip.com/stellent/groups/techpub_sg/documents/packagingspec/en012702.pdf
footprint SOIC-SO28_N (SOIC, 28-Leads, Body 17.9x7.5mm, Pitch 1.27mm, IPC Medium Density)
footprint SOIC-SO28_L (SOIC, 28-Leads, Body 17.9x7.5mm, Pitch 1.27mm, IPC High Density)
footprint SOIC-SO28_M (SOIC, 28-Leads, Body 17.9x7.5mm, Pitch 1.27mm, IPC Low Density)
pins: 1 ~{MCLR} (in), 2 PGED2/EMUD2/AN0/VREF+/CN2/RA0 (io), 3 PGEC2/EMUC2/AN1/VREF-/CN3/RA1 (io), 4 PGED1/EMUD1/AN2/RP0/CN4/RB0 (io), 5 PGEC1/EMUC1/AN3/RP1/CN5/RB1 (io), 6 AN4/RP2/CN6/RB2 (io), 7 AN5/RP3/CN7/RB3 (io), 8 VSS (power), 9 OSC1/CLKI/CN30/RA2 (io), 10 OSC2/CLKO/CN29/RA3 (io), 11 PGED3/SOSCI/RP4/CN1/RB4 (io), 12 PGEC3/EMUC3/SOSCO/T1CK/CN0/RA4 (io), 13 VDD (power), 14 ASDA1/RP5/CN27/RB5 (io), 15 ASCL1/RP6/CN24/RB6 (io), 16 INT0/RP7/CN23/RB7 (io), 17 TCK/PWM2H1/SCL1/RP8/CN22/RB8 (io), 18 TDO/PWM2L1/SDA1/RP9/CN21/RB9 (io), 19 VSS (power), 20 VCAP/VDDCORE (power), 21 TDI/PWM1H3/RP10/CN16/RB10 (io), 22 TMS/PWM1L3/RP11/CN15/RB11 (io), 23 PWM1H2/RP12/CN14/RB12 (io), 24 PWM1L2/RP13/CN13/RB13 (io), 25 PWM1H1/RP14/CN12/RB14 (io), 26 PWM1L1/RP15/CN11/RB15 (io), 27 AVSS (power), 28 AVDD (power)

## DSPIC33FJ12MC202T-I/SS
designator U?
High-Performance 16-bit Digital Signal Controller, 12 KB Flash, 1 KB RAM, 28-Pin SSOP, Industrial Temperature, Tape and Reel; Manufacturer: Microchip; PartNumber: DSPIC33FJ12MC202T-I/SS; DatasheetVersion: revD, Jun-2009; PackageVersion: revBB, Aug-2009; PackageReference: SSOP-SS28; PackageDescription: 28-Lead Plastic Shrink Small Outline (SS) - 5.3mm Body [SSOP]; Supplier 1: Digi-Key; Supplier Part Number 1: DSPIC33FJ12MC202T-I/SS-ND; Supplier 2: Mouser; Supplier Part Number 2: 579-DSPIC33MC202TISS; Mounting Technology: Surface Mount; Code_JEDEC: MS-150; ComponentLink1Description: Manufacturer URL; ComponentLink1URL: http://www.microchip.com/; ComponentLink2Description: Datasheet; ComponentLink2URL: http://ww1.microchip.com/downloads/en/DeviceDoc/70265D.pdf; ComponentLink3Description: Package Specification; ComponentLink3URL: http://www.microchip.com/stellent/groups/techpub_sg/documents/packagingspec/en012702.pdf
footprint SSOP-SS28_N (SOP, 28-Leads, Body 10.2x5.2mm, Pitch 0.65mm, IPC Medium Density)
footprint SSOP-SS28_L (SOP, 28-Leads, Body 10.2x5.2mm, Pitch 0.65mm, IPC High Density)
footprint SSOP-SS28_M (SOP, 28-Leads, Body 10.2x5.2mm, Pitch 0.65mm, IPC Low Density)
pins: 1 ~{MCLR} (in), 2 PGED2/EMUD2/AN0/VREF+/CN2/RA0 (io), 3 PGEC2/EMUC2/AN1/VREF-/CN3/RA1 (io), 4 PGED1/EMUD1/AN2/RP0/CN4/RB0 (io), 5 PGEC1/EMUC1/AN3/RP1/CN5/RB1 (io), 6 AN4/RP2/CN6/RB2 (io), 7 AN5/RP3/CN7/RB3 (io), 8 VSS (power), 9 OSC1/CLKI/CN30/RA2 (io), 10 OSC2/CLKO/CN29/RA3 (io), 11 PGED3/SOSCI/RP4/CN1/RB4 (io), 12 PGEC3/EMUC3/SOSCO/T1CK/CN0/RA4 (io), 13 VDD (power), 14 ASDA1/RP5/CN27/RB5 (io), 15 ASCL1/RP6/CN24/RB6 (io), 16 INT0/RP7/CN23/RB7 (io), 17 TCK/PWM2H1/SCL1/RP8/CN22/RB8 (io), 18 TDO/PWM2L1/SDA1/RP9/CN21/RB9 (io), 19 VSS (power), 20 VCAP/VDDCORE (power), 21 TDI/PWM1H3/RP10/CN16/RB10 (io), 22 TMS/PWM1L3/RP11/CN15/RB11 (io), 23 PWM1H2/RP12/CN14/RB12 (io), 24 PWM1L2/RP13/CN13/RB13 (io), 25 PWM1H1/RP14/CN12/RB14 (io), 26 PWM1L1/RP15/CN11/RB15 (io), 27 AVSS (power), 28 AVDD (power)

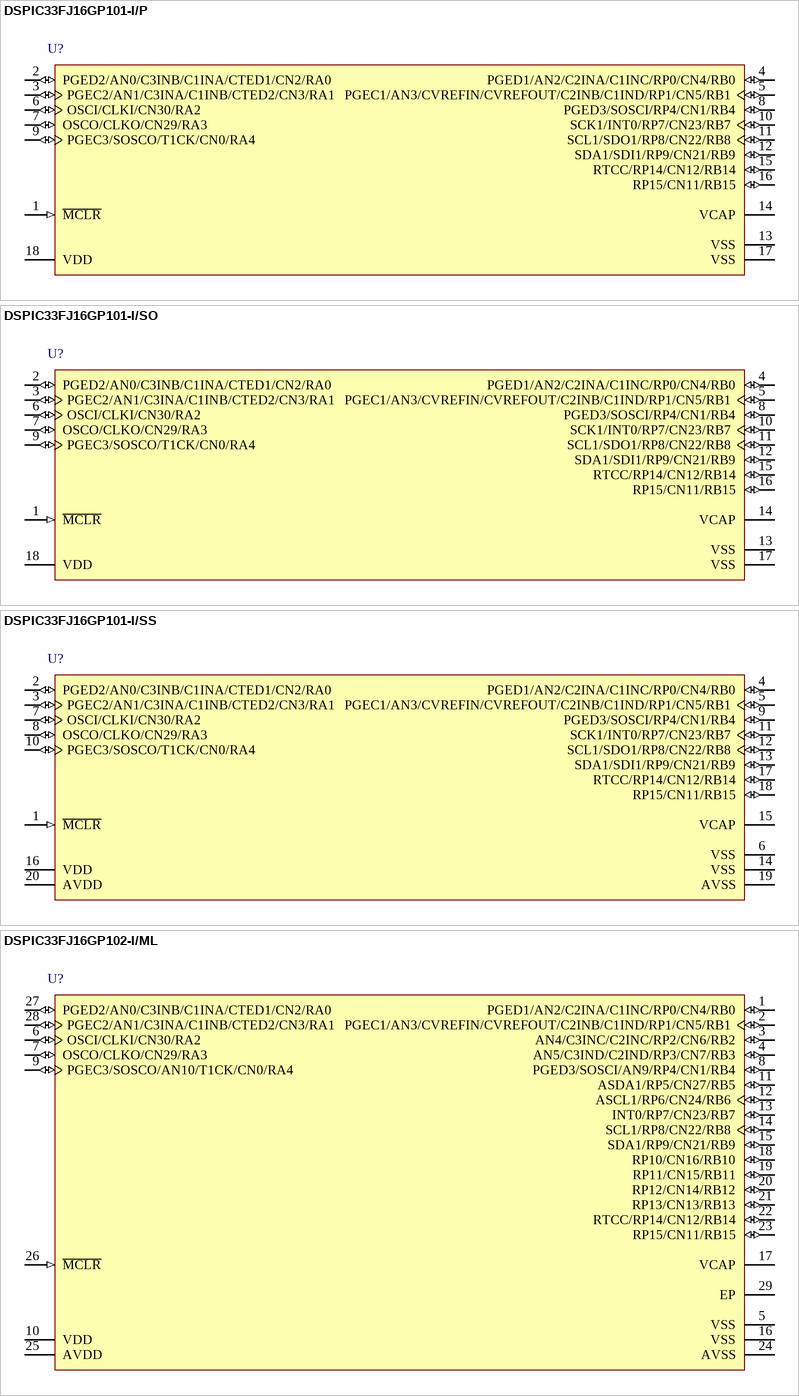
[diagram p9: symbols DSPIC33FJ16GP101-I/P to DSPIC33FJ16GP102-I/ML]

## DSPIC33FJ16GP101-I/P
designator U?
16-Bit Digital Signal Controller, 16 MIPS, 13 I/O, GPIO, -40 to 85 degC, 18-pin PDIP (P18), Tube; Manufacturer: Microchip; PartNumber: DSPIC33FJ16GP101-I/P; DatasheetVersion: Rev. E; PackageVersion: C04-007B; PackageReference: PDIP-P18; PackageDescription: 18-Pin Plastic Dual In-Line, Row Spacing 7.62 mm, 22.86 x 6.6 mm Body, 2.54 mm Pitch; Supplier 1: Digi-Key; Supplier Part Number 1: DSPIC33FJ16GP101-I/P-ND; Supplier 2: Mouser; Supplier Part Number 2: 579-33FJ16GP101IP; Mounting Technology: Through Hole; ComponentLink1Description: Manufacturer URL; ComponentLink1URL: http://www.microchip.com; ComponentLink2Description: Datasheet; ComponentLink2URL: http://ww1.microchip.com/downloads/en/DeviceDoc/70652e.pdf; ComponentLink3Description: Package Specification; ComponentLink3URL: http://www.microchip.com/stellent/groups/techpub_sg/documents/packagingspec/en012702.pdf; ComponentLink4Description: Product URL; ComponentLink4URL: http://www.microchip.com/dsPIC33FJ16GP101
footprint MCHP-PDIP-P18 (DIP, 18-Leads, Body 22.83x6.604mm, Pitch 2.54mm)
pins: 1 ~{MCLR} (in) "Master Clear (Reset) input. This pin is an active-low Reset to the device.", 2 PGED2/AN0/C3INB/C1INA/CTED1/CN2/RA0 (io), 3 PGEC2/AN1/C3INA/C1INB/CTED2/CN3/RA1 (io), 4 PGED1/AN2/C2INA/C1INC/RP0/CN4/RB0 (io), 5 PGEC1/AN3/CVREFIN/CVREFOUT/C2INB/C1IND/RP1/CN5/RB1 (io), 6 OSCI/CLKI/CN30/RA2 (io), 7 OSCO/CLKO/CN29/RA3 (io), 8 PGED3/SOSCI/RP4/CN1/RB4 (io), 9 PGEC3/SOSCO/T1CK/CN0/RA4 (io), 10 SCK1/INT0/RP7/CN23/RB7 (io), 11 SCL1/SDO1/RP8/CN22/RB8 (io), 12 SDA1/SDI1/RP9/CN21/RB9 (io), 13 VSS (power) "Ground reference for logic and I/O pins.", 14 VCAP "CPU logic filter capacitor connection.", 15 RTCC/RP14/CN12/RB14 (io), 16 RP15/CN11/RB15 (io), 17 VSS (power) "Ground reference for logic and I/O pins.", 18 VDD (power) "Positive supply for peripheral logic and I/O pins."

## DSPIC33FJ16GP101-I/SO
designator U?
16-Bit Digital Signal Controller, 16 MIPS, 13 I/O, GPIO, -40 to 85 degC, 18-pin SOIC (SO18), Tube; Manufacturer: Microchip; PartNumber: DSPIC33FJ16GP101-I/SO; DatasheetVersion: Rev. E; PackageVersion: C04-051C; PackageReference: SOIC-SO18; PackageDescription: 18-Lead Plastic Small Outline, 7.5 x 11.55 mm Body, 1.27 mm Pitch; Supplier 1: Digi-Key; Supplier Part Number 1: DSPIC33FJ16GP101-I/SO-ND; Supplier 2: Mouser; Supplier Part Number 2: 579-33FJ16GP101ISO; Mounting Technology: Surface Mount; ComponentLink1Description: Manufacturer URL; ComponentLink1URL: http://www.microchip.com; ComponentLink2Description: Datasheet; ComponentLink2URL: http://ww1.microchip.com/downloads/en/DeviceDoc/70652e.pdf; ComponentLink3Description: Package Specification; ComponentLink3URL: http://www.microchip.com/stellent/groups/techpub_sg/documents/packagingspec/en012702.pdf; ComponentLink4Description: Product URL; ComponentLink4URL: http://www.microchip.com/dsPIC33FJ16GP101
footprint MCHP-SOIC-SO18_N (SOIC, 18-Leads, Body 11.55x7.5mm, Pitch 1.27mm, IPC Medium Density)
footprint MCHP-SOIC-SO18_L (SOIC, 18-Leads, Body 11.55x7.5mm, Pitch 1.27mm, IPC High Density)
footprint MCHP-SOIC-SO18_M (SOIC, 18-Leads, Body 11.55x7.5mm, Pitch 1.27mm, IPC Low Density)
pins: 1 ~{MCLR} (in) "Master Clear (Reset) input. This pin is an active-low Reset to the device.", 2 PGED2/AN0/C3INB/C1INA/CTED1/CN2/RA0 (io), 3 PGEC2/AN1/C3INA/C1INB/CTED2/CN3/RA1 (io), 4 PGED1/AN2/C2INA/C1INC/RP0/CN4/RB0 (io), 5 PGEC1/AN3/CVREFIN/CVREFOUT/C2INB/C1IND/RP1/CN5/RB1 (io), 6 OSCI/CLKI/CN30/RA2 (io), 7 OSCO/CLKO/CN29/RA3 (io), 8 PGED3/SOSCI/RP4/CN1/RB4 (io), 9 PGEC3/SOSCO/T1CK/CN0/RA4 (io), 10 SCK1/INT0/RP7/CN23/RB7 (io), 11 SCL1/SDO1/RP8/CN22/RB8 (io), 12 SDA1/SDI1/RP9/CN21/RB9 (io), 13 VSS (power) "Ground reference for logic and I/O pins.", 14 VCAP "CPU logic filter capacitor connection.", 15 RTCC/RP14/CN12/RB14 (io), 16 RP15/CN11/RB15 (io), 17 VSS (power) "Ground reference for logic and I/O pins.", 18 VDD (power) "Positive supply for peripheral logic and I/O pins."

## DSPIC33FJ16GP101-I/SS
designator U?
16-Bit Digital Signal Controller, 16 MIPS, 15 I/O, GPIO, -40 to 85 degC, 20-pin SSOP (SS20), Tube; Manufacturer: Microchip; PartNumber: DSPIC33FJ16GP101-I/SS; DatasheetVersion: Rev. E; PackageVersion: C04-072B; PackageReference: SSOP-SS20; PackageDescription: 20-Lead Plastic Shrink Small Outline, 5.3 x 7.2 mm Body, 0.65 mm Pitch; Supplier 1: Digi-Key; Supplier Part Number 1: DSPIC33FJ16GP101-I/SS-ND; Supplier 2: Mouser; Supplier Part Number 2: 579-33FJ16GP101ISS; Mounting Technology: Surface Mount; ComponentLink1Description: Manufacturer URL; ComponentLink1URL: http://www.microchip.com; ComponentLink2Description: Datasheet; ComponentLink2URL: http://ww1.microchip.com/downloads/en/DeviceDoc/70652e.pdf; ComponentLink3Description: Package Specification; ComponentLink3URL: http://www.microchip.com/stellent/groups/techpub_sg/documents/packagingspec/en012702.pdf; ComponentLink4Description: Product URL; ComponentLink4URL: http://www.microchip.com/dsPIC33FJ16GP101
footprint MCHP-SSOP-SS20_N (SOP, 20-Leads, Body 7.2x5.3mm, Pitch 0.65mm, IPC Medium Density)
footprint MCHP-SSOP-SS20_L (SOP, 20-Leads, Body 7.2x5.3mm, Pitch 0.65mm, IPC High Density)
footprint MCHP-SSOP-SS20_M (SOP, 20-Leads, Body 7.2x5.3mm, Pitch 0.65mm, IPC Low Density)
pins: 1 ~{MCLR} (in) "Master Clear (Reset) input. This pin is an active-low Reset to the device.", 2 PGED2/AN0/C3INB/C1INA/CTED1/CN2/RA0 (io), 3 PGEC2/AN1/C3INA/C1INB/CTED2/CN3/RA1 (io), 4 PGED1/AN2/C2INA/C1INC/RP0/CN4/RB0 (io), 5 PGEC1/AN3/CVREFIN/CVREFOUT/C2INB/C1IND/RP1/CN5/RB1 (io), 6 VSS (power) "Ground reference for logic and I/O pins.", 7 OSCI/CLKI/CN30/RA2 (io), 8 OSCO/CLKO/CN29/RA3 (io), 9 PGED3/SOSCI/RP4/CN1/RB4 (io), 10 PGEC3/SOSCO/T1CK/CN0/RA4 (io), 11 SCK1/INT0/RP7/CN23/RB7 (io), 12 SCL1/SDO1/RP8/CN22/RB8 (io), 13 SDA1/SDI1/RP9/CN21/RB9 (io), 14 VSS (power) "Ground reference for logic and I/O pins.", 15 VCAP "CPU logic filter capacitor connection.", 16 VDD (power) "Positive supply for peripheral logic and I/O pins.", 17 RTCC/RP14/CN12/RB14 (io), 18 RP15/CN11/RB15 (io), 19 AVSS (power) "Ground reference for analog modules. AVSS is connected to VSS in the 18-pin dsPIC33FJXXGP101 and 20-pin dsPIC33FJXXMC101 devices. In all  other devices, AVSS is separated from VSS.", 20 AVDD (power) "Positive supply for analog modules. This pin must be connected at all times.AVDD is connected to VDD in the 18-pin dsPIC33FJXXGP101 and 20-pin dsPIC33FJXXMC101 devices. In all other devices, AVDD is separated from VDD."

## DSPIC33FJ16GP102-I/ML
designator U?
16-Bit Digital Signal Controller, 16 MIPS, 21 I/O, PMP16, -40 to 85 degC, 28-pin QFN (ML28), Tube; Manufacturer: Microchip; PartNumber: DSPIC33FJ16GP102-I/ML; DatasheetVersion: Rev. E; PackageVersion: C04-105C; PackageReference: QFN-ML28; PackageDescription: 28-Lead Plastic Quad Flat, 6 x 6 mm Body, 0.65 mm Pitch; Supplier 1: Digi-Key; Supplier Part Number 1: DSPIC33FJ16GP102-I/ML-ND; Supplier 2: Mouser; Supplier Part Number 2: 579-33FJ16GP102IML; Mounting Technology: Surface Mount; ComponentLink1Description: Manufacturer URL; ComponentLink1URL: http://www.microchip.com; ComponentLink2Description: Datasheet; ComponentLink2URL: http://ww1.microchip.com/downloads/en/DeviceDoc/70652e.pdf; ComponentLink3Description: Package Specification; ComponentLink3URL: http://www.microchip.com/stellent/groups/techpub_sg/documents/packagingspec/en012702.pdf; ComponentLink4Description: Product URL; ComponentLink4URL: http://www.microchip.com/dsPIC33FJ16GP102
footprint MCHP-QFN-ML28_N (QFN, 28-Leads, Body 6x6mm, Pitch 0.65mm, Thermal Pad 3.7x3.7mm, IPC Medium Density)
footprint MCHP-QFN-ML28_L (QFN, 28-Leads, Body 6x6mm, Pitch 0.65mm, Thermal Pad 3.7x3.7mm, IPC High Density)
footprint MCHP-QFN-ML28_M (QFN, 28-Leads, Body 6x6mm, Pitch 0.65mm, Thermal Pad 3.7x3.7mm, IPC Low Density)
pins: 1 PGED1/AN2/C2INA/C1INC/RP0/CN4/RB0 (io), 2 PGEC1/AN3/CVREFIN/CVREFOUT/C2INB/C1IND/RP1/CN5/RB1 (io), 3 AN4/C3INC/C2INC/RP2/CN6/RB2 (io), 4 AN5/C3IND/C2IND/RP3/CN7/RB3 (io), 5 VSS (power) "Ground reference for logic and I/O pins.", 6 OSCI/CLKI/CN30/RA2 (io), 7 OSCO/CLKO/CN29/RA3 (io), 8 PGED3/SOSCI/AN9/RP4/CN1/RB4 (io), 9 PGEC3/SOSCO/AN10/T1CK/CN0/RA4 (io), 10 VDD (power) "Positive supply for peripheral logic and I/O pins.", 11 ASDA1/RP5/CN27/RB5 (io), 12 ASCL1/RP6/CN24/RB6 (io), 13 INT0/RP7/CN23/RB7 (io), 14 SCL1/RP8/CN22/RB8 (io), 15 SDA1/RP9/CN21/RB9 (io), 16 VSS (power) "Ground reference for logic and I/O pins.", 17 VCAP "CPU logic filter capacitor connection.", 18 RP10/CN16/RB10 (io), 19 RP11/CN15/RB11 (io), 20 RP12/CN14/RB12 (io), 21 RP13/CN13/RB13 (io), 22 RTCC/RP14/CN12/RB14 (io), 23 RP15/CN11/RB15 (io), 24 AVSS (power) "Ground reference for analog modules. AVSS is connected to VSS in the 18-pin dsPIC33FJXXGP101 and 20-pin dsPIC33FJXXMC101 devices. In all other devices, AVSS is separated from VSS.", 25 AVDD (power) "Positive supply for analog modules. This pin must be connected at all times. AVDD is connected to VDD in the 18-pin dsPIC33FJXXGP101 and 20-pin dsPIC33FJXXMC101 devices. In all other devices, AVDD is separated from VDD.", 26 ~{MCLR} (in) "Master Clear (Reset) input. This pin is an active-low Reset to the device.", 27 PGED2/AN0/C3INB/C1INA/CTED1/CN2/RA0 (io), 28 PGEC2/AN1/C3INA/C1INB/CTED2/CN3/RA1 (io), 29 EP (power) "The metal pad at the bottom of the device is not connected to any pins and is recommended to be connected to VSS externally"

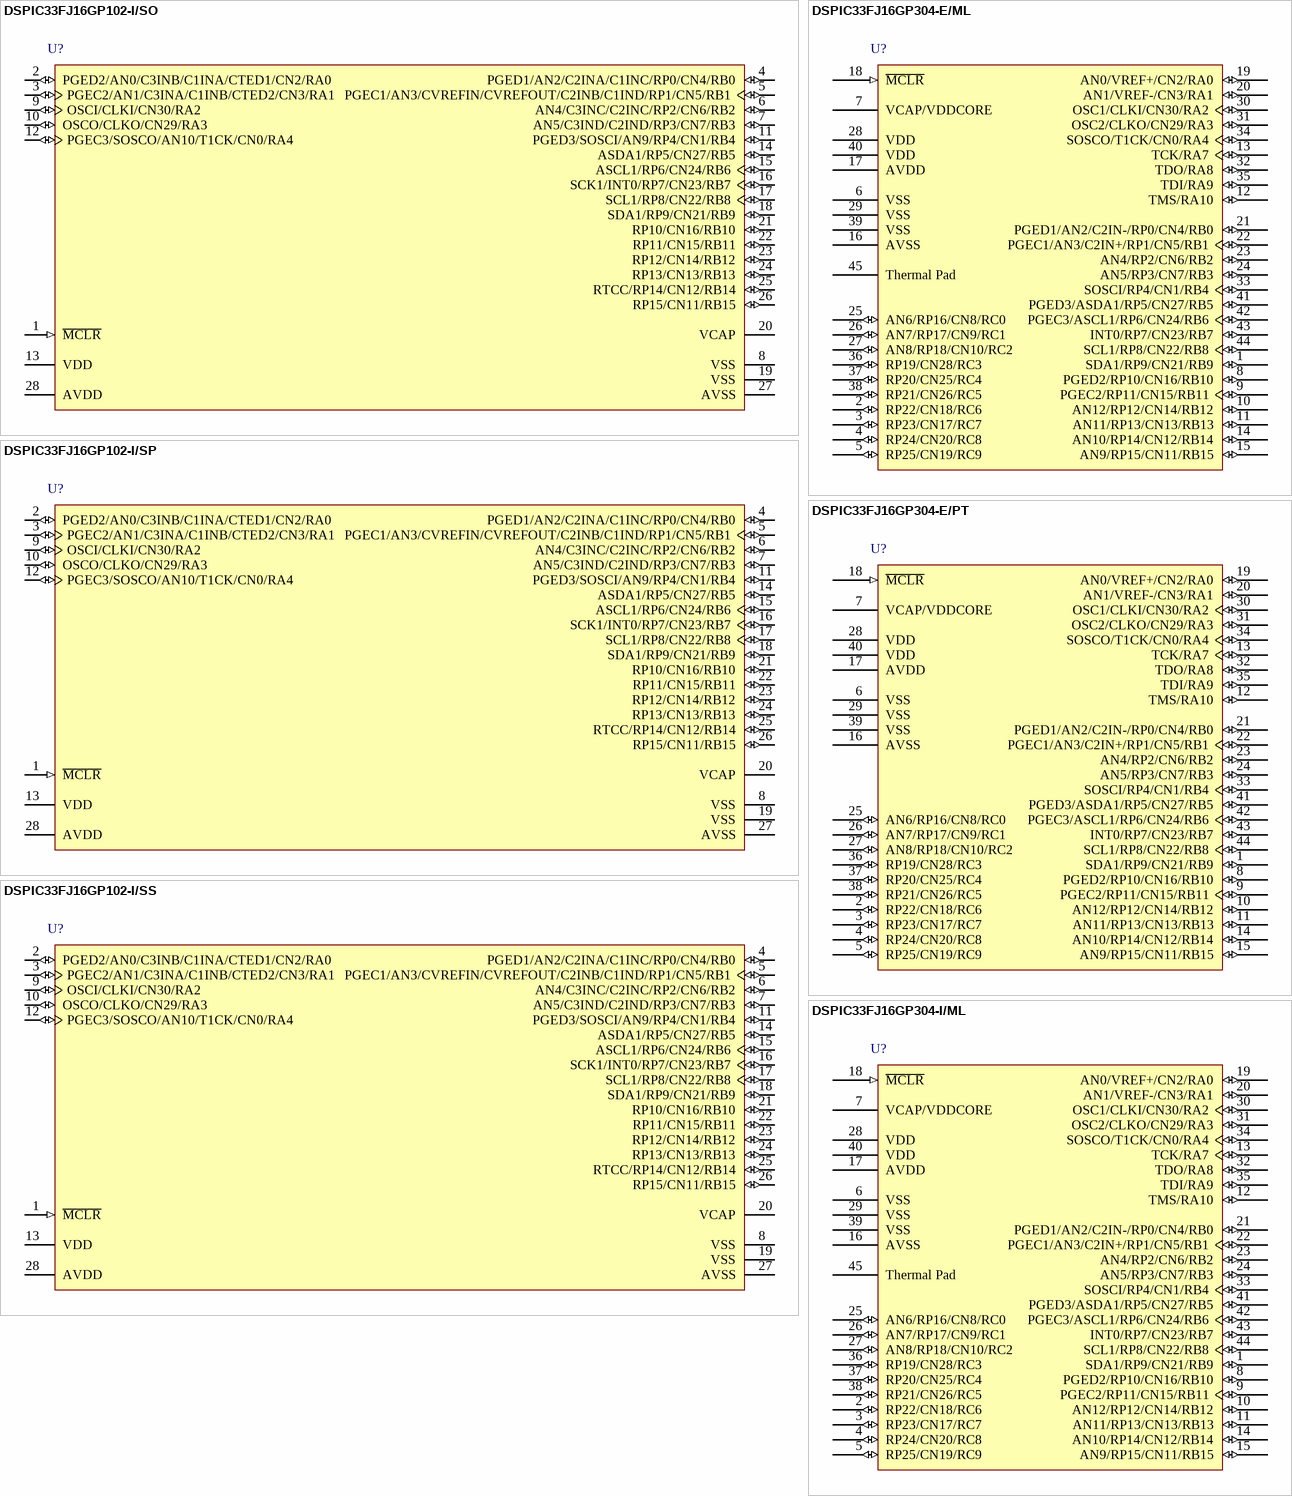
[diagram p10: symbols DSPIC33FJ16GP102-I/SO to DSPIC33FJ16GP304-I/ML]

## DSPIC33FJ16GP102-I/SO
designator U?
16-Bit Digital Signal Controller, 16 MIPS, 21 I/O, PMP16, -40 to 85 degC, 28-pin SOIC (SO28), Tube; Manufacturer: Microchip; PartNumber: DSPIC33FJ16GP102-I/SO; DatasheetVersion: Rev. E; PackageVersion: C04-052C; PackageReference: SOIC-SO28; PackageDescription: 28-Lead Plastic Small Outline, 17.9 x 7.5 mm Body, 1.27 mm Pitch; Supplier 1: Digi-Key; Supplier Part Number 1: DSPIC33FJ16GP102-I/SO-ND; Supplier 2: Farnell; Supplier Part Number 2: 1971854; Supplier 3: Mouser; Supplier Part Number 3: 579-33FJ16GP102ISO; Mounting Technology: Surface Mount; ComponentLink1Description: Manufacturer URL; ComponentLink1URL: http://www.microchip.com; ComponentLink2Description: Datasheet; ComponentLink2URL: http://ww1.microchip.com/downloads/en/DeviceDoc/70652e.pdf; ComponentLink3Description: Package Specification; ComponentLink3URL: http://www.microchip.com/stellent/groups/techpub_sg/documents/packagingspec/en012702.pdf; ComponentLink4Description: Product URL; ComponentLink4URL: http://www.microchip.com/dsPIC33FJ16GP102
footprint MCHP-SOIC-SO28_N (SOIC, 28-Leads, Body 17.9x7.5mm, Pitch 1.27mm, IPC Medium Density)
footprint MCHP-SOIC-SO28_L (SOIC, 28-Leads, Body 17.9x7.5mm, Pitch 1.27mm, IPC High Density)
footprint MCHP-SOIC-SO28_M (SOIC, 28-Leads, Body 17.9x7.5mm, Pitch 1.27mm, IPC Low Density)
pins: 1 ~{MCLR} (in) "Master Clear (Reset) input. This pin is an active-low Reset to the device.", 2 PGED2/AN0/C3INB/C1INA/CTED1/CN2/RA0 (io), 3 PGEC2/AN1/C3INA/C1INB/CTED2/CN3/RA1 (io), 4 PGED1/AN2/C2INA/C1INC/RP0/CN4/RB0 (io), 5 PGEC1/AN3/CVREFIN/CVREFOUT/C2INB/C1IND/RP1/CN5/RB1 (io), 6 AN4/C3INC/C2INC/RP2/CN6/RB2 (io), 7 AN5/C3IND/C2IND/RP3/CN7/RB3 (io), 8 VSS (power) "Ground reference for logic and I/O pins.", 9 OSCI/CLKI/CN30/RA2 (io), 10 OSCO/CLKO/CN29/RA3 (io), 11 PGED3/SOSCI/AN9/RP4/CN1/RB4 (io), 12 PGEC3/SOSCO/AN10/T1CK/CN0/RA4 (io), 13 VDD (power) "Positive supply for peripheral logic and I/O pins.", 14 ASDA1/RP5/CN27/RB5 (io), 15 ASCL1/RP6/CN24/RB6 (io), 16 SCK1/INT0/RP7/CN23/RB7 (io), 17 SCL1/RP8/CN22/RB8 (io), 18 SDA1/RP9/CN21/RB9 (io), 19 VSS (power) "Ground reference for logic and I/O pins.", 20 VCAP "CPU logic filter capacitor connection.", 21 RP10/CN16/RB10 (io), 22 RP11/CN15/RB11 (io), 23 RP12/CN14/RB12 (io), 24 RP13/CN13/RB13 (io), 25 RTCC/RP14/CN12/RB14 (io), 26 RP15/CN11/RB15 (io), 27 AVSS (power) "Ground reference for analog modules. AVSS is connected to VSS in the 18-pin dsPIC33FJXXGP101 and 20-pin dsPIC33FJXXMC101 devices. In all other devices, AVSS is separated from VSS.", 28 AVDD (power) "Positive supply for analog modules. This pin must be connected at all times. AVDD is connected to VDD in the 18-pin dsPIC33FJXXGP101 and 20-pin dsPIC33FJXXMC101 devices. In all other devices, AVDD is separated from VDD."

## DSPIC33FJ16GP102-I/SP
designator U?
16-Bit Digital Signal Controller, 16 MIPS, 21 I/O, PMP16, -40 to 85 degC, 28-pin SPDIP (SP28), Tube; Manufacturer: Microchip; PartNumber: DSPIC33FJ16GP102-I/SP; DatasheetVersion: Rev. E; PackageVersion: C04-070B; PackageReference: SPDIP-SP28; PackageDescription: 28-Lead Plastic Dual In-Line, 34.86 x 6.79 mm Body, 2.54 mm Pitch; Supplier 1: Digi-Key; Supplier Part Number 1: DSPIC33FJ16GP102-I/SP-ND; Supplier 2: Farnell; Supplier Part Number 2: 1971855; Supplier 3: Mouser; Supplier Part Number 3: 579-33FJ16GP102ISP; Mounting Technology: Through Hole; ComponentLink1Description: Manufacturer URL; ComponentLink1URL: http://www.microchip.com; ComponentLink2Description: Datasheet; ComponentLink2URL: http://ww1.microchip.com/downloads/en/DeviceDoc/70652e.pdf; ComponentLink3Description: Package Specification; ComponentLink3URL: http://www.microchip.com/stellent/groups/techpub_sg/documents/packagingspec/en012702.pdf; ComponentLink4Description: Product URL; ComponentLink4URL: http://www.microchip.com/dsPIC33FJ16GP102
footprint MCHP-SPDIP-SP28 (DIP, 28-Leads, Body 34.86x6.79mm, Pitch 2.54mm)
pins: 1 ~{MCLR} (in) "Master Clear (Reset) input. This pin is an active-low Reset to the device.", 2 PGED2/AN0/C3INB/C1INA/CTED1/CN2/RA0 (io), 3 PGEC2/AN1/C3INA/C1INB/CTED2/CN3/RA1 (io), 4 PGED1/AN2/C2INA/C1INC/RP0/CN4/RB0 (io), 5 PGEC1/AN3/CVREFIN/CVREFOUT/C2INB/C1IND/RP1/CN5/RB1 (io), 6 AN4/C3INC/C2INC/RP2/CN6/RB2 (io), 7 AN5/C3IND/C2IND/RP3/CN7/RB3 (io), 8 VSS (power) "Ground reference for logic and I/O pins.", 9 OSCI/CLKI/CN30/RA2 (io), 10 OSCO/CLKO/CN29/RA3 (io), 11 PGED3/SOSCI/AN9/RP4/CN1/RB4 (io), 12 PGEC3/SOSCO/AN10/T1CK/CN0/RA4 (io), 13 VDD (power) "Positive supply for peripheral logic and I/O pins.", 14 ASDA1/RP5/CN27/RB5 (io), 15 ASCL1/RP6/CN24/RB6 (io), 16 SCK1/INT0/RP7/CN23/RB7 (io), 17 SCL1/RP8/CN22/RB8 (io), 18 SDA1/RP9/CN21/RB9 (io), 19 VSS (power) "Ground reference for logic and I/O pins.", 20 VCAP "CPU logic filter capacitor connection.", 21 RP10/CN16/RB10 (io), 22 RP11/CN15/RB11 (io), 23 RP12/CN14/RB12 (io), 24 RP13/CN13/RB13 (io), 25 RTCC/RP14/CN12/RB14 (io), 26 RP15/CN11/RB15 (io), 27 AVSS (power) "Ground reference for analog modules. AVSS is connected to VSS in the 18-pin dsPIC33FJXXGP101 and 20-pin dsPIC33FJXXMC101 devices. In all other devices, AVSS is separated from VSS.", 28 AVDD (power) "Positive supply for analog modules. This pin must be connected at all times. AVDD is connected to VDD in the 18-pin dsPIC33FJXXGP101 and 20-pin dsPIC33FJXXMC101 devices. In all other devices, AVDD is separated from VDD."